# Altium schematic symbol library LTC2067IDD&hash_TRPBF.SchLib: 2 symbols
Pins are listed as number, name and electrical type; pins without a type are passive.

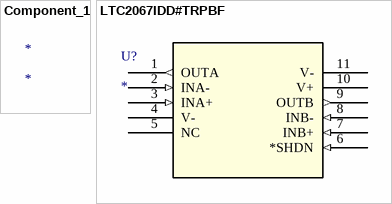
[diagram p0: symbols Component_1 to LTC2067IDD#TRPBF]

## Component_1
designator *

## LTC2067IDD#TRPBF
designator U?
No Description Available; Mfr_Name: Analog Devices Inc; Type: Linear; RefDes: RefDes
footprint 05-08-1699_ADI
pins: 1 OUTA (out), 2 INA- (in), 3 INA+ (in), 4 V- (power), 5 NC, 6 *SHDN (in), 7 INB+ (in), 8 INB- (in), 9 OUTB (out), 10 V+ (power), 11 V- (power)